# EAGLE library part MC14508BCP (library User-Submitted)
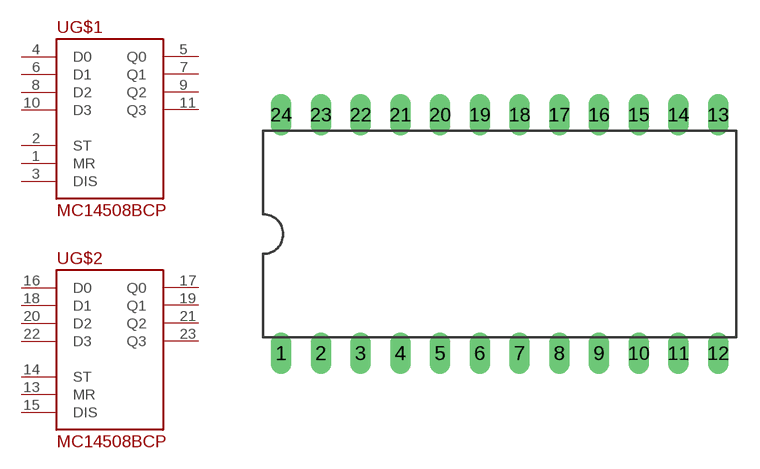
[diagram p21: symbol with the pads of DIL24-6; footprint DIL24-6]

Designator prefix -; gates G$1=MC14508 G$2=MC14508

## MC14508BCP  [DIL24-6]
1  G$1:MR  in
2  G$1:ST  in
3  G$1:DIS  in
4  G$1:D0  in
5  G$1:Q0  out
6  G$1:D1  in
7  G$1:Q1  out
8  G$1:D2  in
9  G$1:Q2  out
10  G$1:D3  in
11  G$1:Q3  out
13  G$2:MR  in
14  G$2:ST  in
15  G$2:DIS  in
16  G$2:D0  in
17  G$2:Q0  out
18  G$2:D1  in
19  G$2:Q1  out
20  G$2:D2  in
21  G$2:Q2  out
22  G$2:D3  in
23  G$2:Q3  out

## Footprint DIL24-6 (pad centres in mm)
Dual In Line Package 0.6 inch
drill 0.813 long: 1 -13.97,-7.62; 2 -11.43,-7.62; 3 -8.89,-7.62; 4 -6.35,-7.62; 5 -3.81,-7.62; 6 -1.27,-7.62; 7 1.27,-7.62; 8 3.81,-7.62; 9 6.35,-7.62; 10 8.89,-7.62; 11 11.43,-7.62; 12 13.97,-7.62; 13 13.97,7.62; 14 11.43,7.62; 15 8.89,7.62; 16 6.35,7.62; 17 3.81,7.62; 18 1.27,7.62; 19 -1.27,7.62; 20 -3.81,7.62; 21 -6.35,7.62; 22 -8.89,7.62; 23 -11.43,7.62; 24 -13.97,7.62